# Altium footprint library CHS.PcbLib: 19 footprints (part 2 of 2)
Each footprint in its own frame and in the unit in brackets; x right, y up, seen from the top. Pads: shape width x height; smd on the part's side, far side on the other; paste and mask are expansions set on the pad; w line width, h text height; cw(c..) or ccw(c..) is an arc to the next point about the centre after c.
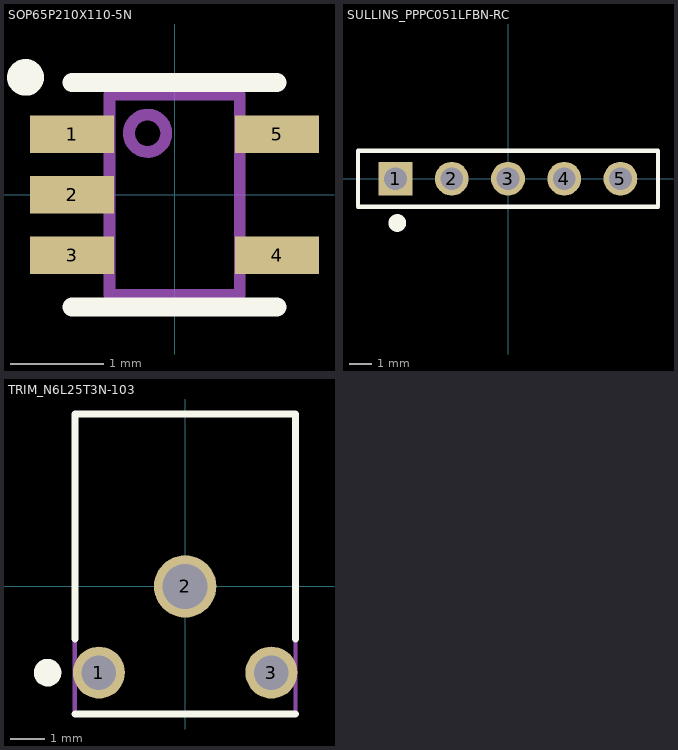
[diagram p1: the footprints below, top view; thin cyan lines are the x and y axes]

## SOP65P210X110-5N [mm] "IC OPAMP GP 1 CIRCUIT SC70-5"
height 1.1
pads (5):
  rect 0.9x0.4 smd paste-0.05 mask+0.05: 1(-1.1,0.65) 2(-1.1,0) 3(-1.1,-0.65) 4(1.1,-0.65) 5(1.1,0.65)
Top Overlay:
  circle w0.254: c-1.6,1.26 r0.07
  lines w0.203: -1.1,-1.206 1.1,-1.206 ; -1.1,1.206 1.1,1.206
Mechanical 1:
  text "'.Designator'" at -0.44,-0.38 h1.52
Mechanical 15:
  circle w0.127: c-0.29,0.66 r0.2
  lines w0.127: -0.7,-1.075 0.7,-1.075 0.7,1.075 -0.7,1.075 -0.7,-1.075
3D body: height 1.1, standoff 0, extent -0.699,-1.074 0.699,1.074

## SULLINS_PPPC051LFBN-RC [mm] "CONN HDR 5POS 0.1 GOLD PCB"
height 8.5
pads (5):
  rect 1.528x1.528 hole 1.02: 1(-5.08,0)
  round 1.528 hole 1.02: 2(-2.54,0) 3(0,0) 4(2.54,0) 5(5.08,0)
Top Overlay:
  circle w0.4: c-5,-2 r0.2
  lines w0.203: -6.775,-1.27 -6.775,1.27 6.775,1.27 6.775,-1.27 -6.775,-1.27
Mechanical 1:
  text "'.Designator'" at -0.5,-0.5 h1.52
Mechanical 15:
  circle w0.127: c-5.08,0 r0.4
  lines w0.127: -6.775,-1.27 6.775,-1.27 6.775,1.27 -6.775,1.27 -6.775,-1.27
3D body: height 8.5, standoff 0, extent -6.774,-1.269 6.774,1.269

## TRIM_N6L25T3N-103 [mm] "POT 10 K OHM LINEAR"
height 5.2
pads (3):
  round 1.508 hole 1: 1(-2.5,-2.5) 3(2.5,-2.5)
  round 1.808 hole 1.3: 2(0,0)
Top Overlay:
  circle w0.4: c-3.99,-2.5 r0.2
  lines w0.203: -3.2,-3.7 3.2,-3.7 ; -3.2,-1.529 -3.2,5 3.2,5 3.2,-1.529
Mechanical 1:
  text "'.Designator'" at 0,0 h1.52
Mechanical 15:
  circle w0.127: c-2.5,-2.5 r0.4
  lines w0.127: -3.2,-3.7 -3.2,5 3.2,5 3.2,-3.7 -3.2,-3.7
3D body: height 5.2, standoff 0, extent -3.264,-3.764 3.264,5.064